# EAGLE library part PARTICLE_SHIELD (library Particle-Shield-Lib)
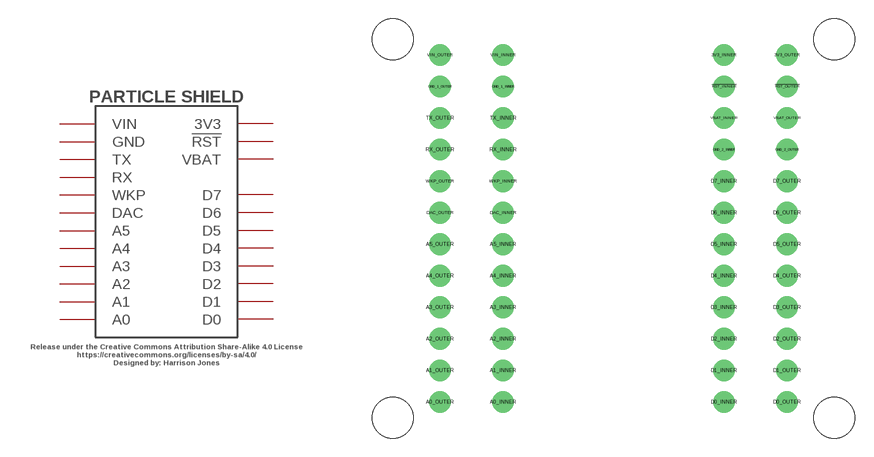
[diagram p0: symbol with the pads of PARTICLE_SHIELD; footprint PARTICLE_SHIELD]

Designator prefix -

## PARTICLE_SHIELD  [PARTICLE_SHIELD]
3V3_INNER  3V3  pwr
3V3_OUTER  3V3  pwr
!RST_INNER  !RST  in
!RST_OUTER  !RST  in
A0_INNER  A0
A0_OUTER  A0
A1_INNER  A1
A1_OUTER  A1
A2_INNER  A2
A2_OUTER  A2
A3_INNER  A3
A3_OUTER  A3
A4_INNER  A4
A4_OUTER  A4
A5_INNER  A5
A5_OUTER  A5
D0_INNER  D0
D0_OUTER  D0
D1_INNER  D1
D1_OUTER  D1
D2_INNER  D2
D2_OUTER  D2
D3_INNER  D3
D3_OUTER  D3
D4_INNER  D4
D4_OUTER  D4
D5_INNER  D5
D5_OUTER  D5
D6_INNER  D6
D6_OUTER  D6
D7_INNER  D7
D7_OUTER  D7
DAC_INNER  DAC
DAC_OUTER  DAC
GND_1_INNER  GND  pwr
GND_1_OUTER  GND  pwr
GND_2_INNER  GND  pwr
GND_2_OUTER  GND  pwr
RX_INNER  RX  in
RX_OUTER  RX  in
TX_INNER  TX  out
TX_OUTER  TX  out
VBAT_INNER  VBAT  pwr
VBAT_OUTER  VBAT  pwr
VIN_INNER  VIN  pwr
VIN_OUTER  VIN  pwr
WKP_INNER  WKP
WKP_OUTER  WKP

## Footprint PARTICLE_SHIELD (pad centres in mm)
drill 0.889 pad 1.753: 3V3_INNER 29.21,31.75; 3V3_OUTER 34.29,31.75; !RST_INNER 29.21,29.21; !RST_OUTER 34.29,29.21; A0_INNER 11.43,3.81; A0_OUTER 6.35,3.81; A1_INNER 11.43,6.35; A1_OUTER 6.35,6.35; A2_INNER 11.43,8.89; A2_OUTER 6.35,8.89; A3_INNER 11.43,11.43; A3_OUTER 6.35,11.43; A4_INNER 11.43,13.97; A4_OUTER 6.35,13.97; A5_INNER 11.43,16.51; A5_OUTER 6.35,16.51; D0_INNER 29.21,3.81; D0_OUTER 34.29,3.81; D1_INNER 29.21,6.35; D1_OUTER 34.29,6.35; D2_INNER 29.21,8.89; D2_OUTER 34.29,8.89; D3_INNER 29.21,11.43; D3_OUTER 34.29,11.43; D4_INNER 29.21,13.97; D4_OUTER 34.29,13.97; D5_INNER 29.21,16.51; D5_OUTER 34.29,16.51; D6_INNER 29.21,19.05; D6_OUTER 34.29,19.05; D7_INNER 29.21,21.59; D7_OUTER 34.29,21.59; DAC_INNER 11.43,19.05; DAC_OUTER 6.35,19.05; GND_1_INNER 11.43,29.21; GND_1_OUTER 6.35,29.21; GND_2_INNER 29.21,24.13; GND_2_OUTER 34.29,24.13; RX_INNER 11.43,24.13; RX_OUTER 6.35,24.13; TX_INNER 11.43,26.67; TX_OUTER 6.35,26.67; VBAT_INNER 29.21,26.67; VBAT_OUTER 34.29,26.67; VIN_INNER 11.43,31.75; VIN_OUTER 6.35,31.75; WKP_INNER 11.43,21.59; WKP_OUTER 6.35,21.59
hole 3.3 at 2.54,2.54
hole 3.3 at 2.54,33.02
hole 3.3 at 38.1,33.02
hole 3.3 at 38.1,2.54